# EAGLE library part PICAXE-14M (library bt_pic)
PICAXE 14 pin BASIC microcontroller chip PICAXE is a neat entry-level microcontroller system that is relatively cheap to get started with. The chip is programmed with a simple serial connection and the BASIC development environment is free! PICAXE has some excellent educational applications and support, and is a great entryway into more complicated embedded systems. If you’re look for a place to start with microcontrollers, PICAXE is a great way to go! datasheet.pdf <http://www.rev-ed.co.uk/docs/picaxe_manual1.pdf>
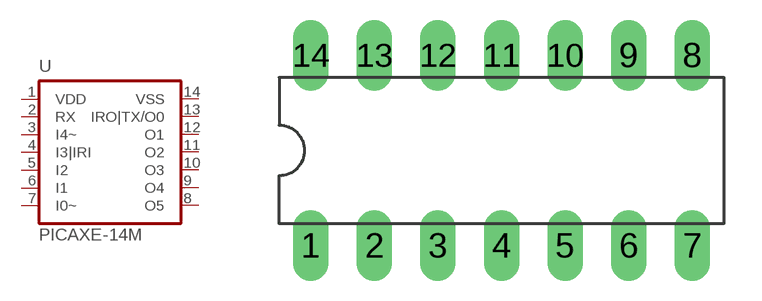
[diagram p4: symbol with the pads of DIL14; footprint DIL14]

Designator prefix U

## PICAXE-14M  [DIL14]
1  VDD  pwr
2  RX  in
3  I4~  in
4  I3|IRI  in
5  I2  in
6  I1  in
7  I0~  in
8  O5  out
9  O4  out
10  O3  out
11  O2  out
12  O1  out
13  IRO|TX/O0  out
14  VSS  pwr

## Footprint DIL14 (pad centres in mm)
drill 0.813 pad 1.422 long: 1 -7.62,-3.81; 2 -5.08,-3.81; 3 -2.54,-3.81; 4 0,-3.81; 5 2.54,-3.81; 6 5.08,-3.81; 7 7.62,-3.81; 8 7.62,3.81; 9 5.08,3.81; 10 2.54,3.81; 11 0,3.81; 12 -2.54,3.81; 13 -5.08,3.81; 14 -7.62,3.81